# Altium footprint library SM_PG-TO263-5.PcbLib: 1 footprints
Each footprint in its own frame and in the unit in brackets; x right, y up, seen from the top. Pads: shape width x height; smd on the part's side, far side on the other; paste and mask are expansions set on the pad; w line width, h text height; cw(c..) or ccw(c..) is an arc to the next point about the centre after c.
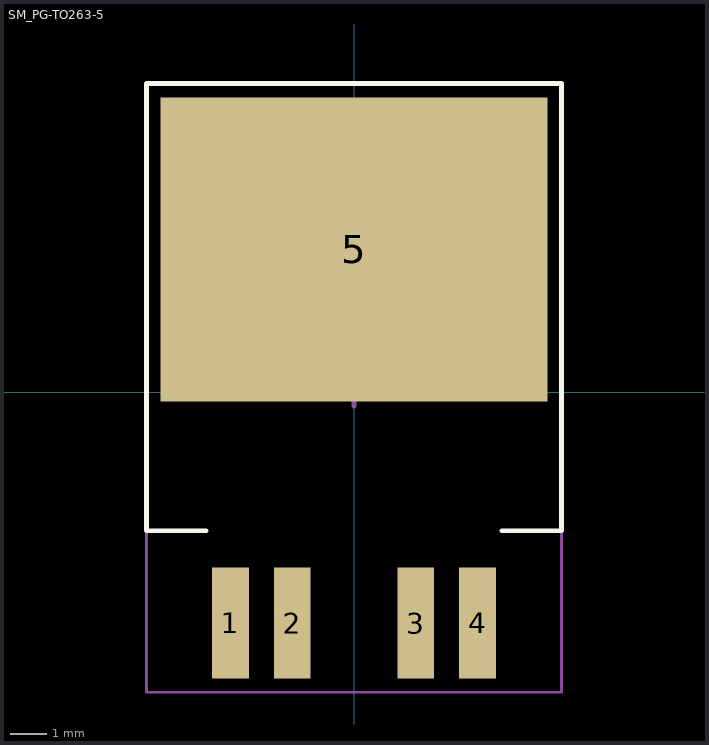
[diagram p0: the footprint, top view; thin cyan lines are the x and y axes]

## SM_PG-TO263-5 [mil] "PG-TO263-5 (4-Lead + Tab)"
pads (5):
  rect 40x120 smd mask+3: 1(-134,-250) 2(-67,-250) 3(67,-250) 4(134,-250)
  rect 420x330 smd mask+3: 5(0,155)
Top Overlay:
  lines w5: -160,-150 -225,-150 -225,335 225,335 225,-150 160,-150
Mechanical 15:
  lines w3: -225,-325 -225,335 225,335 225,-325 -225,-325
  lines w5: -15,0 15,0 ; 0,-15 0,15
3D body "High Side Load Switch AUIPS7111S (updated).STEP": height 190, standoff 0, extent -210,-300 210,309